# Altium schematic symbol library Schematics_IC.SchLib: 13 symbols
Pins are listed as number, name and electrical type; pins without a type are passive.

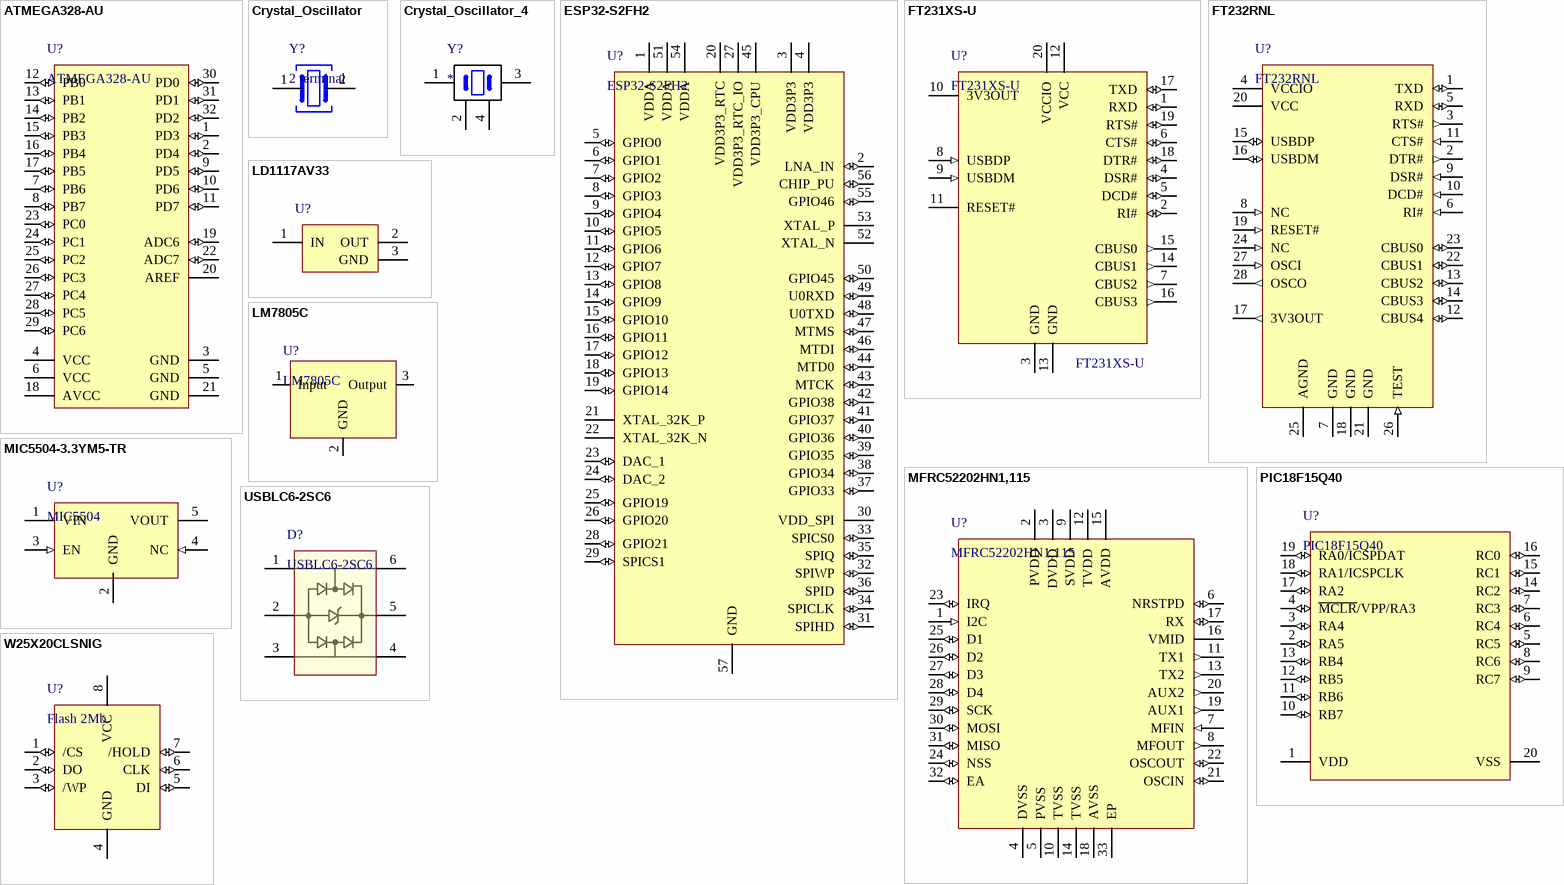
[diagram p0: symbols ATMEGA328-AU to W25X20CLSNIG]

## ATMEGA328-AU
designator U?
MCU AVR 32K FLSH, 1K EE 2K SRAM - 20 MHz; ComponentLink1Description: Mouser; ComponentLink1URL: https://cz.mouser.com/ProductDetail/Microchip-Technology/ATMEGA328-AU?qs=lwdSMh1%2FoYJRHuGBjWz9Pg%3D%3D; ComponentLink2Description: Datasheet; ComponentLink2URL: https://cz.mouser.com/datasheet/2/268/ATmega48A_PA_88A_PA_168A_PA_328_P_DS_DS40002061B-3050139.pdf; Manufacturer: ATMEGA328-AU
footprint TQFP-32
pins: 1 PD3 (io), 2 PD4 (io), 3 GND (power), 4 VCC (power), 5 GND (power), 6 VCC (power), 7 PB6 (io), 8 PB7 (io), 9 PD5 (io), 10 PD6 (io), 11 PD7 (io), 12 PB0 (io), 13 PB1 (io), 14 PB2 (io), 15 PB3 (io), 16 PB4 (io), 17 PB5 (io), 18 AVCC (power), 19 ADC6 (io), 20 AREF (power), 21 GND (power), 22 ADC7 (io), 23 PC0 (io), 24 PC1 (io), 25 PC2 (io), 26 PC3 (io), 27 PC4 (io), 28 PC5 (io), 29 PC6 (io), 30 PD0 (io), 31 PD1 (io), 32 PD2 (io)

## Crystal_Oscillator
designator Y?, comment 2 terminal
footprint CrystalOscillator (Crystal Oscillator THT)
pins: 1, 2

## Crystal_Oscillator_4
designator Y?
footprint CRYSTALOSCILLATOR4
pins: 1, 2, 3, 4

## ESP32-S2FH2
designator U?
Espressif Systems; ComponentLink1Description: Mouser; ComponentLink1URL: https://cz.mouser.com/ProductDetail/Espressif-Systems/ESP32-S2FH2?qs=Wj%2FVkw3K%252BMAwgsQxM33nkg%3D%3D
footprint QFN40P700X700X90_HS-57N (QFN, 56-Leads, Body 7.00x7.00mm, Pitch 0.40mm, Thermal Pad 4.00x4.00mm, IPC Medium Density)
pins: 1 VDDA (power), 2 LNA_IN (io), 3 VDD3P3 (power), 4 VDD3P3 (power), 5 GPIO0 (io), 6 GPIO1 (io), 7 GPIO2 (io), 8 GPIO3 (io), 9 GPIO4 (io), 10 GPIO5 (io), 11 GPIO6 (io), 12 GPIO7 (io), 13 GPIO8 (io), 14 GPIO9 (io), 15 GPIO10 (io), 16 GPIO11 (io), 17 GPIO12 (io), 18 GPIO13 (io), 19 GPIO14 (io), 20 VDD3P3_RTC (power), 21 XTAL_32K_P, 22 XTAL_32K_N, 23 DAC_1 (io), 24 DAC_2 (io), 25 GPIO19 (io), 26 GPIO20 (io), 27 VDD3P3_RTC_IO (power), 28 GPIO21 (io), 29 SPICS1 (io), 30 VDD_SPI (power), 31 SPIHD (io), 32 SPIWP (io), 33 SPICS0 (io), 34 SPICLK (io), 35 SPIQ (io), 36 SPID (io), 37 GPIO33 (io), 38 GPIO34 (io), 39 GPIO35 (io), 40 GPIO36 (io), 41 GPIO37 (io), 42 GPIO38 (io), 43 MTCK (io), 44 MTD0 (io), 45 VDD3P3_CPU (power), 46 MTDI (io), 47 MTMS (io), 48 U0TXD (io), 49 U0RXD (io), 50 GPIO45 (io), 51 VDDA (power), 52 XTAL_N, 53 XTAL_P, 54 VDDA (power), 55 GPIO46 (io), 56 CHIP_PU (io), 57 GND (power)

## FT231XS-U
designator U?
USB to UART; ComponentLink1Description: Mouser; ComponentLink1URL: https://cz.mouser.com/ProductDetail/FTDI/FT231XS-U?qs=Gp1Yz1mis3WFP7tMtj2Z9g%3D%3D; ComponentLink2Description: Datasheet; ComponentLink2URL: https://cz.mouser.com/datasheet/2/163/DS_FT231X-13571.pdf; Manufacturer Part: FT231XS-U
footprint SSOP-20
pins: 1 RXD (io), 2 RI# (io), 3 GND (power), 4 DSR# (io), 5 DCD# (io), 6 CTS# (io), 7 CBUS2 (out), 8 USBDP (in), 9 USBDM (in), 10 3V3OUT (power), 11 RESET# (power), 12 VCC (power), 13 GND (power), 14 CBUS1 (out), 15 CBUS0 (out), 16 CBUS3 (out), 17 TXD (io), 18 DTR# (io), 19 RTS# (io), 20 VCCIO (power)

## FT232RNL
designator U?
USB Interface IC USB Full Speed to Serial UART IC, Includes Oscillator and EEPROM, SSOP-28; ComponentLink1Description: TME; ComponentLink1URL: https://www.tme.eu/cz/details/ft232rnl/integrovane-obvody-interface-usb/ftdi/ft232rnl-reel/
footprint SOP65P780X200-28N (SOP, 28-Leads, Body 10.20x5.30mm, Pitch 0.65mm, IPC Medium Density)
pins: 1 TXD (io), 2 DTR# (out), 3 RTS# (out), 4 VCCIO (power), 5 RXD (io), 6 RI# (in), 7 GND (power), 8 NC (in), 9 DSR# (in), 10 DCD# (in), 11 CTS# (in), 12 CBUS4 (io), 13 CBUS2 (io), 14 CBUS3 (io), 15 USBDP (io), 16 USBDM (io), 17 3V3OUT (out), 18 GND (power), 19 RESET# (in), 20 VCC (power), 21 GND (power), 22 CBUS1 (io), 23 CBUS0 (io), 24 NC (in), 25 AGND (power), 26 TEST (in), 27 OSCI (in), 28 OSCO (out)

## LD1117AV33
designator U?
LDO Voltage Regulators 3.3V 1.0A Positive; ComponentLink1Description: Mouser; ComponentLink1URL: https://cz.mouser.com/ProductDetail/STMicroelectronics/LD1117AV33?qs=hUhhBvpTJN9Rfx8G8TXH1A%3D%3D
footprint TO-220-3
pins: 1 IN (power), 2 OUT (power), 3 GND (power)

## LM7805C
designator U?
footprint LM7805C
pins: 1 Input (power), 2 GND (power), 3 Output (power)

## MFRC52202HN1,115
designator U?
NFC/RFID Tags & Transponders Standard performance MIFARE and NTAG frontend; ComponentLink1Description: Mouser; ComponentLink1URL: https://cz.mouser.com/ProductDetail/NXP-Semiconductors/MFRC52202HN1115?qs=cbprxTG2Yq%2F%252BkR%2FEgMbBLA%3D%3D
footprint PQFN50P500X500X100_HS-33N (PQFN, 32-Leads, Body 5.00x5.00mm, Pitch 0.50mm, Thermal Pad 3.10x3.10mm, IPC Medium Density)
pins: 1 I2C (in), 2 PVDD (power), 3 DVDD (power), 4 DVSS (power), 5 PVSS (power), 6 NRSTPD (io), 7 MFIN (in), 8 MFOUT (out), 9 SVDD (power), 10 TVSS (power), 11 TX1 (out), 12 TVDD (power), 13 TX2 (out), 14 TVSS (power), 15 AVDD (power), 16 VMID (power), 17 RX (io), 18 AVSS (power), 19 AUX1 (out), 20 AUX2 (out), 21 OSCIN (io), 22 OSCOUT (io), 23 IRQ (io), 24 NSS (io), 25 D1 (io), 26 D2 (io), 27 D3 (io), 28 D4 (io), 29 SCK (io), 30 MOSI (io), 31 MISO (io), 32 EA (io), 33 EP (power)

## MIC5504-3.3YM5-TR
designator U?, comment MIC5504
LDO regulator 3.3V; Manufacturer Part: MIC5504-3.3YM5-TR; ComponentLink1Description: Mouser; ComponentLink1URL: https://cz.mouser.com/ProductDetail/Microchip-Technology/MIC5504-3.3YM5-TR?qs=U6T8BxXiZAUmVQ5Zs217qQ%3D%3D; ComponentLink2Description: Datasheet; ComponentLink2URL: https://cz.mouser.com/datasheet/2/268/MIC550X-1082389.pdf
footprint SOT-23-5
pins: 1 VIN (power), 2 GND (power), 3 EN (in), 4 NC (in), 5 VOUT (power)

## PIC18F15Q40
designator U?
PIC18F04/05/14/15Q40 14/20-Pin, Low-Power, High-Performance Microcontroller; ComponentLink1Description: Microchip; ComponentLink1URL: https://www.microchip.com/en-us/product/pic18f15q40; ComponentLink2Description: TME; ComponentLink2URL: https://www.tme.eu/cz/details/pic18f15q40-i_so/rodina-pic-8-bitu/microchip-technology/
footprint SOP20
pins: 1 VDD (power), 2 RA5 (io), 3 RA4 (io), 4 ~{MCLR}/VPP/RA3 (io), 5 RC5 (io), 6 RC4 (io), 7 RC3 (io), 8 RC6 (io), 9 RC7 (io), 10 RB7 (io), 11 RB6 (io), 12 RB5 (io), 13 RB4 (io), 14 RC2 (io), 15 RC1 (io), 16 RC0 (io), 17 RA2 (io), 18 RA1/ICSPCLK (io), 19 RA0/ICSPDAT (io), 20 VSS (power)

## USBLC6-2SC6
designator D?
ESD Suppressors / TVS Diodes ESD Protection Low Cap; ComponentLink1Description: TME; ComponentLink1URL: https://www.tme.eu/cz/details/usblc6-2sc6/ochranne-diody-site/stmicroelectronics/
footprint SOT-666
pins: 1 I/O 1, 2 GND, 3 I/O 2, 4 I/O 3, 5 VBUS, 6 I/O 4

## W25X20CLSNIG
designator U?, comment Flash 2Mb
Flash NOR spiFlash, 2M-bit, 4Kb Uniform Sector; ComponentLink1Description: Mouser; ComponentLink1URL: https://cz.mouser.com/ProductDetail/Winbond/W25X20CLSNIG?qs=qSfuJ%252Bfl%2Fd4DnSjFw8V2Og%3D%3D&_gl=1*1b8m9p8*_ga*dW5kZWZpbmVk*_ga_1KQLCYKRX3*MTY5NDI0MDc0Mi4xNi4xLjE2OTQyNDA4MTIuNTkuMC4w*_ga_15W4STQT4T*MTY5NDI0MDc0My4xNi4xLjE2OTQyNDA4MTIuMC4wLjA.; ComponentLink2Description: Datasheet; ComponentLink2URL: https://cz.mouser.com/datasheet/2/949/w25x20cl_revf_20150806-1489633.pdf
footprint SOIC127P600X175-8N (SOIC, 8-Leads, Body 4.90x3.90mm, Pitch 1.27mm, IPC Medium Density)
pins: 1 /CS (io), 2 DO (io), 3 /WP (io), 4 GND (power), 5 DI (io), 6 CLK (io), 7 /HOLD (io), 8 VCC (power)